# EAGLE library part LTC6991 (library FSAE Electric (Alexander Ray's conflicted copy 2016-04-02))
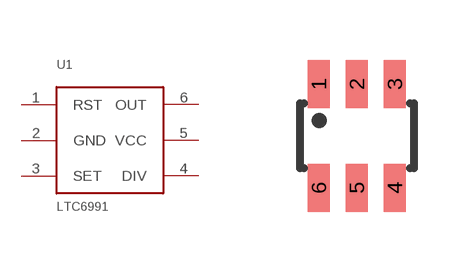
[diagram p3: symbol with the pads of TSOT-23-6; footprint TSOT-23-6]

Designator prefix U1

## LTC6991 (PARTNO: LTC6991HS6#TRMPBF)  [TSOT-23-6]
1  RST
2  GND
3  SET
4  DIV
5  VCC
6  OUT

## Footprint TSOT-23-6 (pad centres in mm)
smd 0.55 x 1.2: 1 -0.95,1.3; 2 0,1.3; 3 0.95,1.3; 4 0.95,-1.3; 5 0,-1.3; 6 -0.95,-1.3